# Altium footprint library Synthiam-new.PcbLib: 262 footprints (part 9 of 17)
Each footprint in its own frame and in the unit in brackets; x right, y up, seen from the top. Pads: shape width x height; smd on the part's side, far side on the other; paste and mask are expansions set on the pad; w line width, h text height; cw(c..) or ccw(c..) is an arc to the next point about the centre after c.
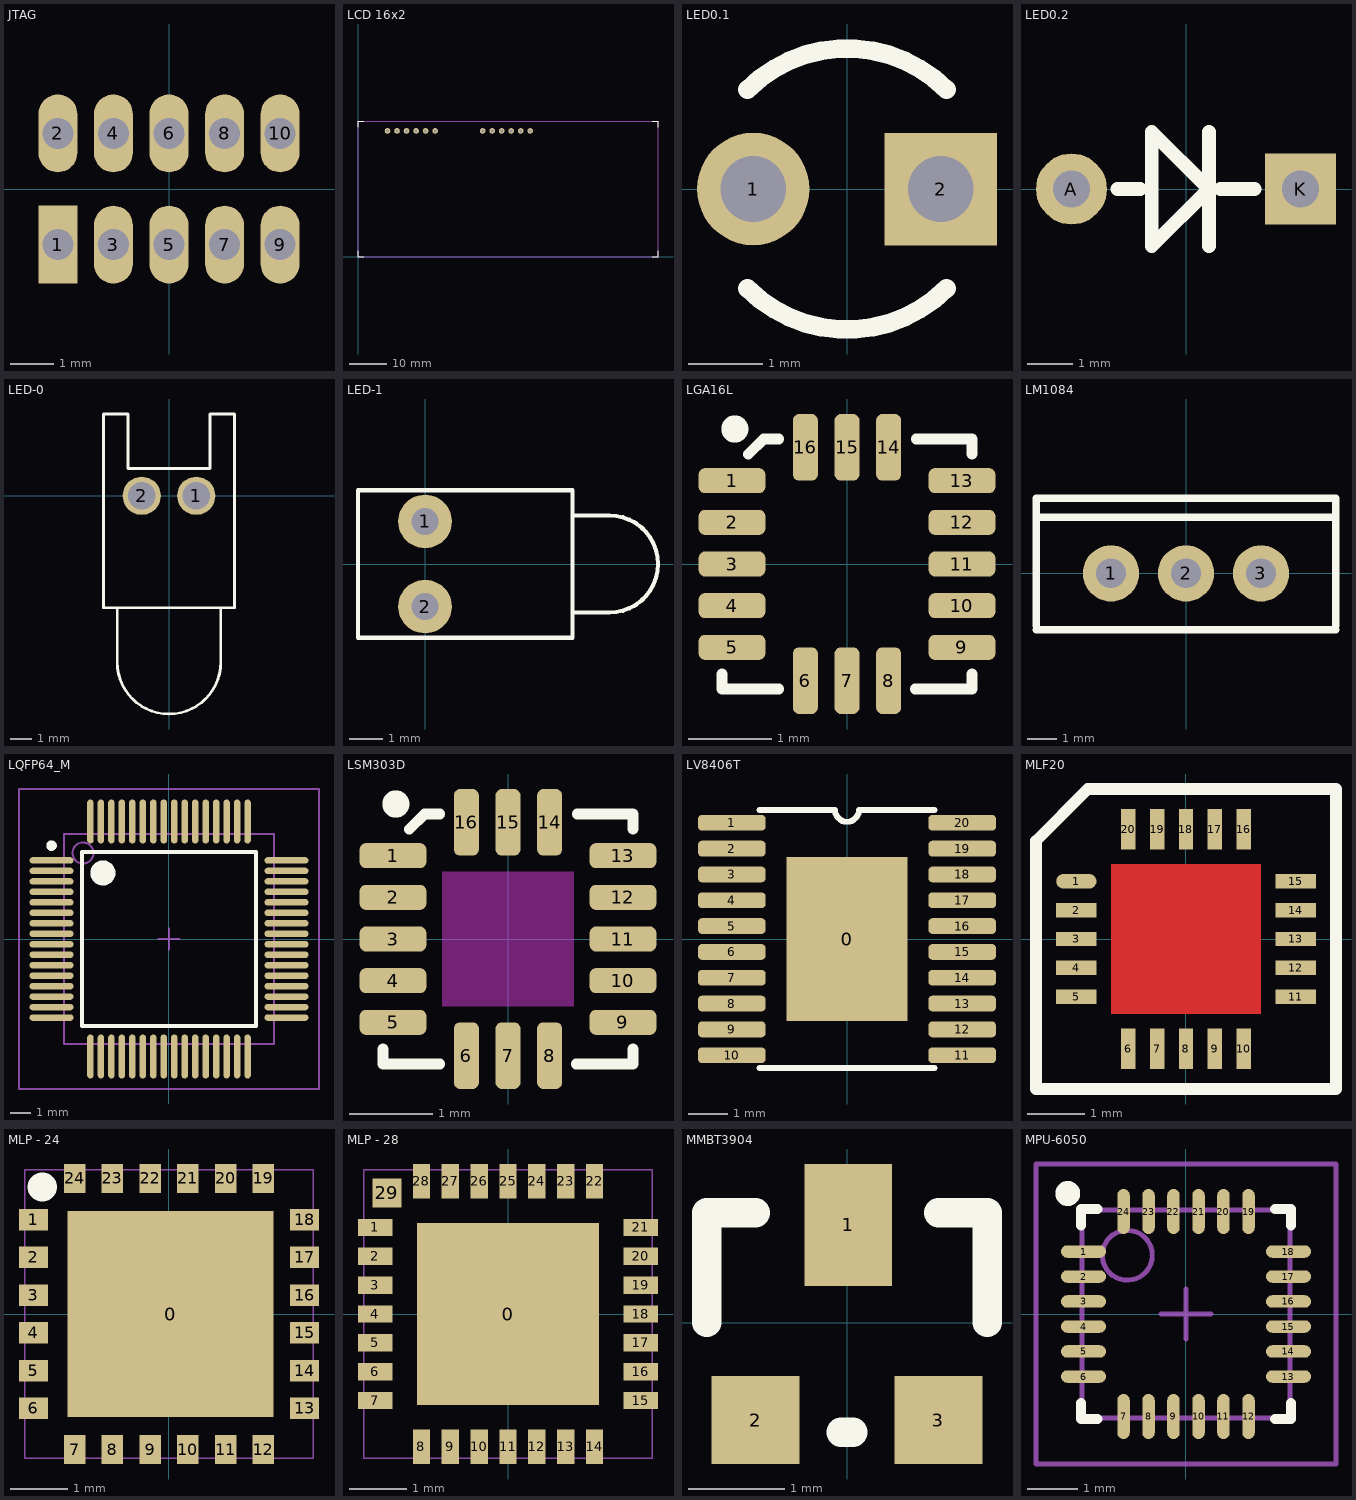
[diagram p8: the footprints below, top view; thin cyan lines are the x and y axes]

## JTAG [mil]
pads (10):
  rect 35x70 hole 28: 1(-100,-50)
  oval 35x70 hole 28: 2(-100,50) 3(-50,-50) 4(-50,50) 5(0,-50) 6(0,50) 7(50,-50) 8(50,50) 9(100,-50) 10(100,50)

## LCD 16x2 [mm]
pads (12):
  round 1.5 hole 0.9: 1(7.849,33.553) 2(10.389,33.553) 3(12.929,33.553) 4(15.469,33.553) 5(18.009,33.553) 6(20.549,33.553) 11(33.249,33.553) 12(35.789,33.553) 13(38.329,33.553) 14(40.869,33.553) 15(43.409,33.553) 16(45.949,33.553)
Top Overlay:
  lines w0.203: -0.025,1.549 -0.025,0.025 1.499,0.025 ; -0.025,34.569 -0.025,36.093 1.499,36.093 ; 78.537,0.025 80.061,0.025 80.061,1.549 ; 78.537,36.093 80.061,36.093 80.061,34.569
Mechanical 1:
  lines w0.203: -0.025,0.025 -0.025,36.093 80.061,36.093 80.061,0.025 -0.025,0.025

## LED0.1 [mil]
pads (2):
  round 60 hole 35: 1(-50,0)
  rect 60x60 hole 35: 2(50,0)
Top Overlay:
  lines w10: -53.03,-53.03 ccw(c0,0) 53.03,-53.03 ; -53.03,53.03 cw(c0,0) 53.03,53.03

## LED0.2 [mil]
pads (2):
  round 62 hole 32: A(-100,0)
  rect 62x62 hole 32: K(100,0)
Top Overlay:
  lines w12: -60,0 -40,0 ; 20,-50 20,50 ; 30,0 60,0 ; -30,-50 -30,50 20,0 -30,-50

## LED-0 [mil]
pads (2):
  round 70 hole 50: 1(50,0) 2(-50,0)
Top Overlay:
  lines w5: -95,-205 -95,-305 ccw(c0,-305) 95,-305 95,-205 ; -120,-205 120,-205 120,150 75,150 75,50 -75,50 -75,150 -120,150 -120,-205

## LED-1 [mm]
pads (2):
  round 1.6 hole 0.8: 1(0,1.27) 2(0,-1.27)
Top Overlay:
  lines w0.127: 4.4,-1.45 5.5,-1.45 ccw(c5.5,0) 5.5,1.45 4.4,1.45 ; -2,-2.2 4.4,-2.2 4.4,2.2 -2,2.2 -2,-2.2

## LGA16L [mm]
pads (16):
  rrect50% 0.8x0.3 smd: 1(-1.38,1) 2(-1.38,0.5) 3(-1.38,0) 4(-1.38,-0.5) 5(-1.38,-1) 9(1.38,-1) 10(1.38,-0.5) 11(1.38,0) 12(1.38,0.5) 13(1.38,1)
  rrect50% 0.3x0.8 smd: 6(-0.5,-1.4) 7(0,-1.4) 8(0.5,-1.4) 14(0.5,1.4) 15(0,1.4) 16(-0.5,1.4)
Top Overlay:
  circle w0.254: c-1.346,1.62 r0.036
  lines w0.127: -1.5,-1.32 -1.5,-1.5 -0.82,-1.5 ; -1.185,1.315 -1,1.5 -0.82,1.5 ; 0.82,-1.5 1.49,-1.5 ; 0.83,1.5 1.5,1.5 1.5,1.32 ; 1.5,-1.5 1.5,-1.32

## LM1084 [mil]
pads (3):
  round 75 hole 39.4: 1(-100,0) 2(0,0) 3(100,0)
Top Overlay:
  lines w10: -200,-75 200,-75 ; -200,-70 -200,100 200,100 200,-70 ; -200,75 200,75

## LQFP64_M [mm]
pads (64):
  oval 2.1x0.3 smd: 1(-5.6,3.75) 2(-5.6,3.25) 3(-5.6,2.75) 4(-5.6,2.25) 5(-5.6,1.75) 6(-5.6,1.25) 7(-5.6,0.75) 8(-5.6,0.25) 9(-5.6,-0.25) 10(-5.6,-0.75) 11(-5.6,-1.25) 12(-5.6,-1.75) 13(-5.6,-2.25) 14(-5.6,-2.75) 15(-5.6,-3.25) 16(-5.6,-3.75) 33(5.6,-3.75) 34(5.6,-3.25) 35(5.6,-2.75) 36(5.6,-2.25) 37(5.6,-1.75) 38(5.6,-1.25) 39(5.6,-0.75) 40(5.6,-0.25) 41(5.6,0.25) 42(5.6,0.75) 43(5.6,1.25) 44(5.6,1.75) 45(5.6,2.25) 46(5.6,2.75) 47(5.6,3.25) 48(5.6,3.75)
  oval 0.3x2.1 smd: 17(-3.75,-5.6) 18(-3.25,-5.6) 19(-2.75,-5.6) 20(-2.25,-5.6) 21(-1.75,-5.6) 22(-1.25,-5.6) 23(-0.75,-5.6) 24(-0.25,-5.6) 25(0.25,-5.6) 26(0.75,-5.6) 27(1.25,-5.6) 28(1.75,-5.6) 29(2.25,-5.6) 30(2.75,-5.6) 31(3.25,-5.6) 32(3.75,-5.6) 49(3.75,5.6) 50(3.25,5.6) 51(2.75,5.6) 52(2.25,5.6) 53(1.75,5.6) 54(1.25,5.6) 55(0.75,5.6) 56(0.25,5.6) 57(-0.25,5.6) 58(-0.75,5.6) 59(-1.25,5.6) 60(-1.75,5.6) 61(-2.25,5.6) 62(-2.75,5.6) 63(-3.25,5.6) 64(-3.75,5.6)
Top Overlay:
  circle w0.6: c-3.15,3.15 r0.3
  circle w0.25: c-5.6,4.45 r0.125
  lines w0.2: -4.15,-4.15 4.15,-4.15 4.15,4.15 -4.15,4.15 -4.15,-4.15
Mechanical 13:
  circle w0.1: c-4.1,4.1 r0.5
  lines w0.1: -5,-5 5,-5 5,5 -5,5 -5,-5
Mechanical 15:
  lines w0.1: -0.5,0 0.5,0 ; 0,-0.5 0,0.5 ; -7.15,-7.15 7.15,-7.15 7.15,7.15 -7.15,7.15 -7.15,-7.15

## LSM303D [mm]
pads (16):
  rrect50% 0.8x0.3 smd: 1(-1.38,1) 2(-1.38,0.5) 3(-1.38,0) 4(-1.38,-0.5) 5(-1.38,-1) 9(1.38,-1) 10(1.38,-0.5) 11(1.38,0) 12(1.38,0.5) 13(1.38,1)
  rrect50% 0.3x0.8 smd: 6(-0.5,-1.4) 7(0,-1.4) 8(0.5,-1.4) 14(0.5,1.4) 15(0,1.4) 16(-0.5,1.4)
Top Overlay:
  circle w0.254: c-1.346,1.62 r0.036
  lines w0.127: -1.5,-1.32 -1.5,-1.5 -0.82,-1.5 ; -1.185,1.315 -1,1.5 -0.82,1.5 ; 0.82,-1.5 1.49,-1.5 ; 0.83,1.5 1.5,1.5 1.5,1.32 ; 1.5,-1.5 1.5,-1.32
Keep-Out Layer:
  rectangle: -0.79,-0.81 0.79,0.81

## LV8406T [mil]
pads (21):
  rect 122x165 smd: 0(0,0)
  rrect50% 68x16 smd: 1(-116,117) 2(-116,91) 3(-116,65) 4(-116,39) 5(-116,13) 6(-116,-13) 7(-116,-39) 8(-116,-65) 9(-116,-91) 10(-116,-117) 11(116,-117) 12(116,-91) 13(116,-65) 14(116,-39) 15(116,-13) 16(116,13) 17(116,39) 18(116,65) 19(116,91) 20(116,117)
Top Overlay:
  lines w6: -88,-130 88,-130 ; -88,130 -12,130 ccw(c0,130) 12,130 88,130

## MLF20 [mm]
pads (20):
  oval 0.7x0.25 smd: 1(-1.9,1)
  rect 0.7x0.25 smd: 2(-1.9,0.5) 3(-1.9,0) 4(-1.9,-0.5) 5(-1.9,-1) 11(1.9,-1) 12(1.9,-0.5) 13(1.9,0) 14(1.9,0.5) 15(1.9,1)
  rect 0.25x0.7 smd: 6(-1,-1.9) 7(-0.5,-1.9) 8(0,-1.9) 9(0.5,-1.9) 10(1,-1.9) 16(1,1.9) 17(0.5,1.9) 18(0,1.9) 19(-0.5,1.9) 20(-1,1.9)
Top Layer:
  rectangle: -1.3,-1.3 1.3,1.3
Top Overlay:
  lines w0.2: -1.715,2.585 -2.6,1.7 -2.6,-2.6 2.6,-2.6 2.6,2.6 -1.7,2.6

## MLP - 24 [mm]
pads (25):
  rect 3.57x3.57 smd paste-1.1: 0(0.03,0)
  rect 0.5x0.37 smd: 1(-2.35,1.635) 2(-2.35,0.981) 3(-2.35,0.327) 4(-2.35,-0.327) 5(-2.35,-0.981) 6(-2.35,-1.635) 13(2.35,-1.635) 14(2.35,-0.981) 15(2.35,-0.327) 16(2.35,0.327) 17(2.35,0.981) 18(2.35,1.635)
  rect 0.37x0.5 smd: 7(-1.635,-2.35) 8(-0.981,-2.35) 9(-0.327,-2.35) 10(0.327,-2.35) 11(0.981,-2.35) 12(1.635,-2.35) 19(1.635,2.35) 20(0.981,2.35) 21(0.327,2.35) 22(-0.327,2.35) 23(-0.981,2.35) 24(-1.635,2.35)
Top Overlay:
  lines w0.508: -2.198,2.2 -2.192,2.2
Mechanical 1:
  lines w0.025: -2.5,-2.5 -2.5,2.5 2.5,2.5 2.5,-2.5 -2.5,-2.5

## MLP - 28 [mm]
pads (30):
  rect 3.15x3.15 smd paste-1.1: 0(0,0)
  rect 0.6x0.3 smd: 1(-2.3,1.5) 2(-2.3,1) 3(-2.3,0.5) 4(-2.3,0) 5(-2.3,-0.5) 6(-2.3,-1) 7(-2.3,-1.5) 15(2.3,-1.5) 16(2.3,-1) 17(2.3,-0.5) 18(2.3,0) 19(2.3,0.5) 20(2.3,1) 21(2.3,1.5)
  rect 0.3x0.6 smd: 8(-1.5,-2.3) 9(-1,-2.3) 10(-0.5,-2.3) 11(0,-2.3) 12(0.5,-2.3) 13(1,-2.3) 14(1.5,-2.3) 22(1.5,2.3) 23(1,2.3) 24(0.5,2.3) 25(0,2.3) 26(-0.5,2.3) 27(-1,2.3) 28(-1.5,2.3)
  rect 0.5x0.5 smd paste-0.05: 29(-2.1,2.1)
Mechanical 1:
  lines w0.025: -2.5,-2.5 2.5,-2.5 2.5,2.5 -2.5,2.5 -2.5,-2.5

## MMBT3904 [mil]
pads (3):
  rect 36x50 smd: 1(0.5,40)
  rect 36x36 smd: 2(-37.5,-40) 3(37.5,-40)
Top Overlay:
  lines w12: -57.5,0 -57.5,45 -37.5,45 ; -2.5,-45 2.5,-45 ; 37.5,45 57.5,45 57.5,0

## MPU-6050 [mm]
pads (24):
  oval 0.9x0.25 smd: 1(-2.05,1.25) 2(-2.05,0.75) 3(-2.05,0.25) 4(-2.05,-0.25) 5(-2.05,-0.75) 6(-2.05,-1.25) 13(2.05,-1.25) 14(2.05,-0.75) 15(2.05,-0.25) 16(2.05,0.25) 17(2.05,0.75) 18(2.05,1.25)
  oval 0.25x0.9 smd: 7(-1.25,-2.05) 8(-0.75,-2.05) 9(-0.25,-2.05) 10(0.25,-2.05) 11(0.75,-2.05) 12(1.25,-2.05) 19(1.25,2.05) 20(0.75,2.05) 21(0.25,2.05) 22(-0.25,2.05) 23(-0.75,2.05) 24(-1.25,2.05)
Top Overlay:
  circle w0.25: c-2.365,2.41 r0.125
  lines w0.2: -2.1,-1.775 -2.1,-2.1 -1.775,-2.1 ; -2.1,1.775 -2.1,2.1 -1.775,2.1 ; 1.775,-2.1 2.1,-2.1 2.1,-1.775 ; 1.775,2.1 2.1,2.1 2.1,1.775
Mechanical 13:
  circle w0.1: c-1.175,1.175 r0.5
  lines w0.1: -2.075,-2.075 2.075,-2.075 2.075,2.075 -2.075,2.075 -2.075,-2.075
Mechanical 15:
  lines w0.1: -0.5,0 0.5,0 ; 0,-0.5 0,0.5 ; -3,-3 3,-3 3,3 -3,3 -3,-3